# Altium footprint library MyLibrary.PcbLib: 365 footprints (part 12 of 23)
Each footprint in its own frame and in the unit in brackets; x right, y up, seen from the top. Pads: shape width x height; smd on the part's side, far side on the other; paste and mask are expansions set on the pad; w line width, h text height; cw(c..) or ccw(c..) is an arc to the next point about the centre after c.
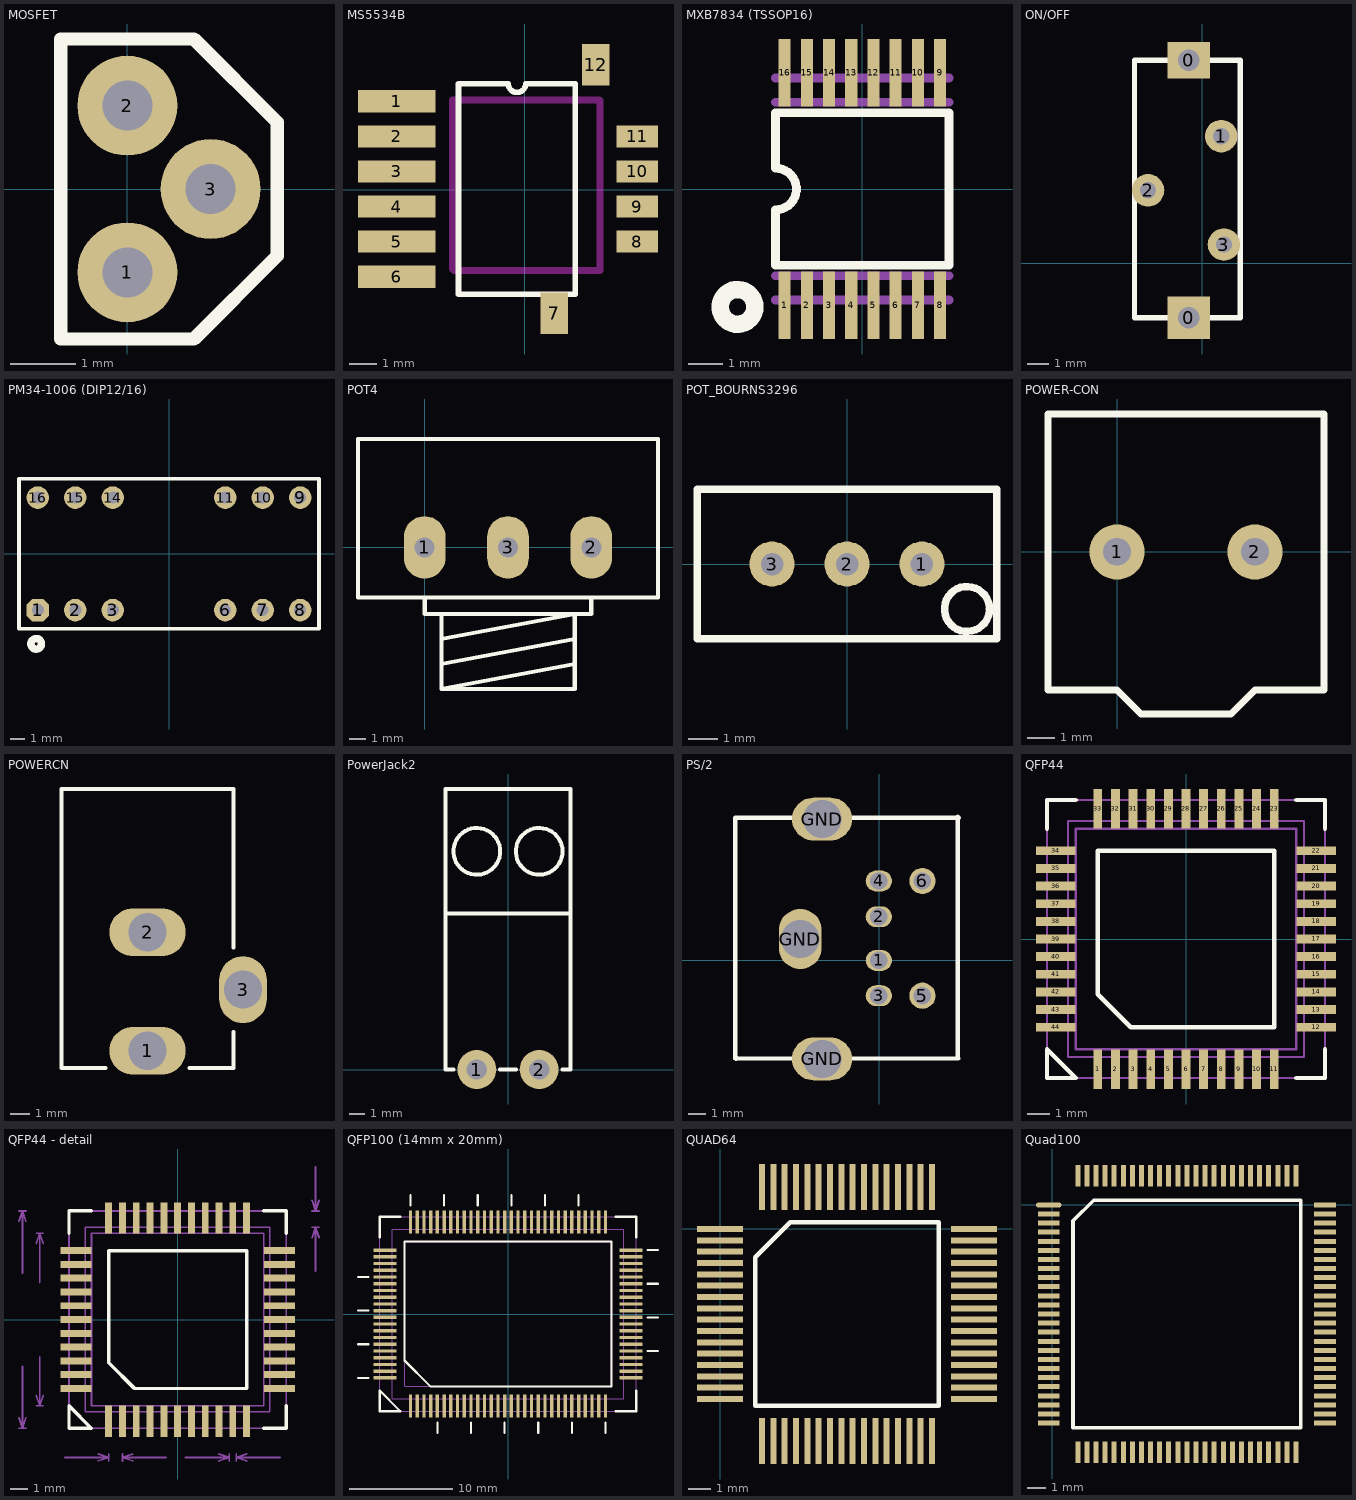
[diagram p11: the footprints below, top view; thin cyan lines are the x and y axes]

## MOSFET [mil]
pads (3):
  round 60 hole 30: 1(0,-50) 2(0,50) 3(50,0)
Top Overlay:
  lines w8: -40,-90 -40,90 40,90 90,40 90,-40 40,-90 -40,-90

## MS5534B [mm]
pads (12):
  rect 2.8x0.8 smd: 1(-4.625,3.2) 2(-4.625,1.93) 3(-4.625,0.66) 4(-4.625,-0.61) 5(-4.625,-1.88) 6(-4.625,-3.15)
  rect 1x1.5 smd: 7(1.075,-4.475) 12(2.575,4.525)
  rect 1.5x0.8 smd: 8(4.075,-1.88) 9(4.075,-0.61) 10(4.075,0.66) 11(4.075,1.93)
Top Layer:
  lines w0.254: -5.325,-1.875 -5.3,-1.9 ; -3.75,3.225 -3.725,3.225
Top Overlay:
  lines w0.2: -2.39,-3.785 1.84,-3.785 1.84,3.835 0.043,3.835 cw(c-0.275,3.835) -0.592,3.835 -2.39,3.835 -2.39,-3.785
Keep-Out Layer:
  lines w0.254: -2.6,3.225 -2.6,-2.875 -2.55,-2.925 2.725,-2.925 2.725,3.225 2.7,3.25 -2.6,3.25

## MXB7834 (TSSOP16) [mm]
pads (16):
  rect 0.35x1.95 smd: 1(-2.24,-3.35) 2(-1.6,-3.35) 3(-0.96,-3.35) 4(-0.32,-3.35) 5(0.32,-3.35) 6(0.96,-3.35) 7(1.6,-3.35) 8(2.24,-3.35) 9(2.24,3.35) 10(1.6,3.35) 11(0.96,3.35) 12(0.32,3.35) 13(-0.32,3.35) 14(-0.96,3.35) 15(-1.6,3.35) 16(-2.24,3.35)
Top Overlay:
  circle w0.5: c-3.6,-3.4 r0.5
  lines w0.254: -2.5,-2.2 -2.5,-0.6 ccw(c-2.5,0) -2.5,0.6 -2.5,2.2 2.5,2.2 2.5,-2.2 -2.5,-2.2
Mechanical 2:
  lines w0.254: -2.5,-3.2 2.5,-3.2 ; -2.5,-2.5 2.5,-2.5 ; -2.5,2.5 2.5,2.5 ; -2.5,3.2 2.5,3.2

## ON/OFF [mil]
pads (5):
  rect 78.74x78.74 hole 39.76: 0(-25,-100)
  rect 78.74x66.93 hole 39.76: 0(-25,375)
  round 60 hole 30: 1(35,235) 2(-100,135) 3(40,35)
Top Overlay:
  lines w10: -125,-100 -125,375 70,375 70,-100 -125,-100

## PM34-1006 (DIP12/16) [mil]
pads (12):
  oct 60x60 hole 32: 1(-350,-150)
  round 60 hole 32: 2(-250,-150) 3(-150,-150) 6(150,-150) 7(250,-150) 8(350,-150) 9(350,150) 10(250,150) 11(150,150) 14(-150,150) 15(-250,150) 16(-350,150)
Top Overlay:
  circle w19.68: c-354.14,-240 r14.14
  lines w10: -400,-200 -400,200 400,200 400,-200 -400,-200

## POT4 [mil]
pads (3):
  oval 100x150 hole 48: 1(0,0) 2(400,0) 3(200,0)
Top Overlay:
  lines w10: 0,-120 0,-160 40,-160 ; 40,-280 360,-220 ; 40,-220 360,-160 ; 360,-280 40,-340 ; 400,-120 400,-160 360,-160 ; 40,-340 360,-340 360,-160 ; 40,-340 40,-160 ; 40,-160 360,-160 ; -160,-120 200,-120 560,-120 560,260 -160,260 -160,-120

## POT_BOURNS3296 [mil]
pads (3):
  round 60 hole 30: 1(100,0) 2(0,0) 3(-100,0)
Top Overlay:
  circle w10: c160,-60 r30
  lines w10: -200,-100 -200,100 200,100 200,-100 -200,-100
Mechanical 1:
  text "<-CW" at -118.11,-78.74 h40

## POWER-CON [mil]
pads (2):
  round 80 hole 40: 1(0,0) 2(200,0)
Top Overlay:
  lines w10: -100,-200 -100,200 300,200 300,-200 200,-200 165,-235 35,-235 0,-200 -100,-200

## POWERCN [mm]
pads (3):
  oval 4x2.5 hole 2: 1(-772.668,-881.745) 2(-772.668,-875.545)
  oval 2.5x3.5 hole 2: 3(-767.668,-878.545)
Top Overlay:
  lines w0.2: -774.868,-882.645 -777.168,-882.645 -777.168,-868.045 -768.168,-868.045 -768.168,-876.345 ; -770.468,-882.645 -768.168,-882.645 -768.168,-880.745

## PowerJack2 [mm]
pads (2):
  round 2.5 hole 1.3: 1(-2,0) 2(2,0)
Top Overlay:
  circle w0.254: c-2,14 r1.5
  circle w0.254: c2,14 r1.5
  lines w0.254: -3.5,0 -4,0 -4,10 ; -0.5,0 0.5,0 ; 3.5,0 4,0 4,10 ; -4,10 -4,18 4,18 4,10 ; -4,10 4,10

## PS/2 [mil]
pads (9):
  oval 60x48 hole 40: 1(-1,0) 2(-1,100) 3(-1,-81) 4(-1,182)
  round 60 hole 40: 5(99,-81) 6(99,182)
  oval 98.42x137.79 hole 88: GND(-181,49)
  oval 137.79x98.42 hole 88: GND(-131,-226) GND(-131,324)
Top Overlay:
  lines w10: -328.37,-226.09 -328.37,-221.09 ; 180,-223 180,329 ; 181,-225 -330,-225 -330,327.28 182.28,327.28

## QFP44 [mm]
pads (44):
  rect 0.4x1.8 smd: 1(-4,-5.9) 2(-3.2,-5.9) 3(-2.4,-5.9) 4(-1.6,-5.9) 5(-0.8,-5.9) 6(0,-5.9) 7(0.8,-5.9) 8(1.6,-5.9) 9(2.4,-5.9) 10(3.2,-5.9) 11(4,-5.9) 23(4,5.9) 24(3.2,5.9) 25(2.4,5.9) 26(1.6,5.9) 27(0.8,5.9) 28(0,5.9) 29(-0.8,5.9) 30(-1.6,5.9) 31(-2.4,5.9) 32(-3.2,5.9) 33(-4,5.9)
  rect 1.8x0.4 smd: 12(5.9,-4) 13(5.9,-3.2) 14(5.9,-2.4) 15(5.9,-1.6) 16(5.9,-0.8) 17(5.9,0) 18(5.9,0.8) 19(5.9,1.6) 20(5.9,2.4) 21(5.9,3.2) 22(5.9,4) 34(-5.9,4) 35(-5.9,3.2) 36(-5.9,2.4) 37(-5.9,1.6) 38(-5.9,0.8) 39(-5.9,0) 40(-5.9,-0.8) 41(-5.9,-1.6) 42(-5.9,-2.4) 43(-5.9,-3.2) 44(-5.9,-4)
Top Overlay:
  lines w0.2: -6.3,5 -6.3,6.3 -5,6.3 ; 5,-6.3 6.3,-6.3 6.3,-5 ; 5,6.3 6.3,6.3 6.3,5 ; -6.3,-6.3 -6.3,-5 -5,-6.3 -6.3,-6.3 ; -4,-2.5 -4,4 4,4 4,-4 -2.5,-4 -4,-2.5
Mechanical 1:
  lines w0.1: -6.3,-6.3 6.3,-6.3 6.3,6.3 -6.3,6.3 -6.3,-6.3 ; -5.35,-5.35 -5.35,5.35 5.35,5.35 5.35,-5.35 -5.35,-5.35 ; -5,-5 5,-5 5,5 -5,5 -5,-5

## QFP44 - detail [mm]
pads (44):
  rect 0.4x1.8 smd: 1(-4,-5.9) 2(-3.2,-5.9) 3(-2.4,-5.9) 4(-1.6,-5.9) 5(-0.8,-5.9) 6(0,-5.9) 7(0.8,-5.9) 8(1.6,-5.9) 9(2.4,-5.9) 10(3.2,-5.9) 11(4,-5.9) 23(4,5.9) 24(3.2,5.9) 25(2.4,5.9) 26(1.6,5.9) 27(0.8,5.9) 28(0,5.9) 29(-0.8,5.9) 30(-1.6,5.9) 31(-2.4,5.9) 32(-3.2,5.9) 33(-4,5.9)
  rect 1.8x0.4 smd: 12(5.9,-4) 13(5.9,-3.2) 14(5.9,-2.4) 15(5.9,-1.6) 16(5.9,-0.8) 17(5.9,0) 18(5.9,0.8) 19(5.9,1.6) 20(5.9,2.4) 21(5.9,3.2) 22(5.9,4) 34(-5.9,4) 35(-5.9,3.2) 36(-5.9,2.4) 37(-5.9,1.6) 38(-5.9,0.8) 39(-5.9,0) 40(-5.9,-0.8) 41(-5.9,-1.6) 42(-5.9,-2.4) 43(-5.9,-3.2) 44(-5.9,-4)
Top Overlay:
  lines w0.2: -6.3,5 -6.3,6.3 -5,6.3 ; 5,-6.3 6.3,-6.3 6.3,-5 ; 5,6.3 6.3,6.3 6.3,5 ; -6.3,-6.3 -5,-6.3 -6.3,-5 -6.3,-6.3 ; -4,-2.5 -2.5,-4 4,-4 4,4 -4,4 -4,-2.5
Mechanical 1:
  lines w0.1: -9.2,-6.3 -8.8,-6.3 ; -9.2,-5.7 -9,-6.3 ; -9.2,5.7 -9,6.3 ; -9.2,6.3 -8.8,6.3 ; -9,-2.703 -9,-6.3 ; -9,2.703 -9,6.3 ; -8.8,-5.7 -9,-6.3 ; -8.8,5.7 -9,6.3 ; -8.2,-5 -7.8,-5 ; -8.2,-4.4 -8,-5 ; -8.2,4.4 -8,5 ; -8.2,5 -7.8,5 ; -8,-2.153 -8,-5 ; -8,2.153 -8,5 ; -7.8,-4.4 -8,-5 ; -7.8,4.4 -8,5 ; -6.54,-8 -4,-8 ; -4.6,-8.2 -4,-8 ; -4.6,-7.8 -4,-8 ; -4,-8.2 -4,-7.8 ; -3.2,-8.2 -3.2,-7.8 ; -2.6,-8.2 -3.2,-8 ; -2.6,-7.8 -3.2,-8 ; -0.66,-8 -3.2,-8 ; 0.46,-8 3,-8 ; 2.4,-8.2 3,-8 ; 2.4,-7.8 3,-8 ; 3,-8.2 3,-7.8 ; 3.4,-8.2 3.4,-7.8 ; 4,-8.2 3.4,-8 ; 4,-7.8 3.4,-8 ; 5.94,-8 3.4,-8 ; 7.8,4.75 8,5.35 ; 7.8,5.35 8.2,5.35 ; 7.8,6.3 8.2,6.3 ; 7.8,6.9 8,6.3 ; 8,2.81 8,5.35 ; 8,8.84 8,6.3 ; 8.2,4.75 8,5.35 ; 8.2,6.9 8,6.3 ; -6.3,-6.3 -6.3,6.3 6.3,6.3 6.3,-6.3 -6.3,-6.3 ; -5.35,-5.35 5.35,-5.35 5.35,5.35 -5.35,5.35 -5.35,-5.35 ; -5,-5 -5,5 5,5 5,-5 -5,-5
  text "10 (mm)" at -7.6,-1.899 h0.6
  text "12.6 (mm)" at -8.6,-2.449 h0.6
  text "0.8 (mm)" at -5.799,-9.6 h0.6
  text "0.95 (mm)" at 9.6,3.326 h0.6
  text "0.4 (mm)" at 1.001,-9.6 h0.6

## QFP100 (14mm x 20mm) [mm]
pads (100):
  rect 0.32x2.2 smd: 1(-9.425,-8.9) 2(-8.775,-8.9) 3(-8.125,-8.9) 4(-7.475,-8.9) 5(-6.825,-8.9) 6(-6.175,-8.9) 7(-5.525,-8.9) 8(-4.875,-8.9) 9(-4.225,-8.9) 10(-3.575,-8.9) 11(-2.925,-8.9) 12(-2.275,-8.9) 13(-1.625,-8.9) 14(-0.975,-8.9) 15(-0.325,-8.9) 16(0.325,-8.9) 17(0.975,-8.9) 18(1.625,-8.9) 19(2.275,-8.9) 20(2.925,-8.9) 21(3.575,-8.9) 22(4.225,-8.9) 23(4.875,-8.9) 24(5.525,-8.9) 25(6.175,-8.9) 26(6.825,-8.9) 27(7.475,-8.9) 28(8.125,-8.9) 29(8.775,-8.9) 30(9.425,-8.9) 51(9.425,8.9) 52(8.775,8.9) 53(8.125,8.9) 54(7.475,8.9) 55(6.825,8.9) 56(6.175,8.9) 57(5.525,8.9) 58(4.875,8.9) 59(4.225,8.9) 60(3.575,8.9) 61(2.925,8.9) 62(2.275,8.9) 63(1.625,8.9) 64(0.975,8.9) 65(0.325,8.9) 66(-0.325,8.9) 67(-0.975,8.9) 68(-1.625,8.9) 69(-2.275,8.9) 70(-2.925,8.9) 71(-3.575,8.9) 72(-4.225,8.9) 73(-4.875,8.9) 74(-5.525,8.9) 75(-6.175,8.9) 76(-6.825,8.9) 77(-7.475,8.9) 78(-8.125,8.9) 79(-8.775,8.9) 80(-9.425,8.9)
  rect 2.2x0.32 smd: 31(11.9,-6.175) 32(11.9,-5.525) 33(11.9,-4.875) 34(11.9,-4.225) 35(11.9,-3.575) 36(11.9,-2.925) 37(11.9,-2.275) 38(11.9,-1.625) 39(11.9,-0.975) 40(11.9,-0.325) 41(11.9,0.325) 42(11.9,0.975) 43(11.9,1.625) 44(11.9,2.275) 45(11.9,2.925) 46(11.9,3.575) 47(11.9,4.225) 48(11.9,4.875) 49(11.9,5.525) 50(11.9,6.175) 81(-11.9,6.175) 82(-11.9,5.525) 83(-11.9,4.875) 84(-11.9,4.225) 85(-11.9,3.575) 86(-11.9,2.925) 87(-11.9,2.275) 88(-11.9,1.625) 89(-11.9,0.975) 90(-11.9,0.325) 91(-11.9,-0.325) 92(-11.9,-0.975) 93(-11.9,-1.625) 94(-11.9,-2.275) 95(-11.9,-2.925) 96(-11.9,-3.575) 97(-11.9,-4.225) 98(-11.9,-4.875) 99(-11.9,-5.525) 100(-11.9,-6.175)
Top Overlay:
  lines w0.2: -14.5,-6.175 -13.5,-6.175 ; -14.5,-2.925 -13.5,-2.925 ; -14.5,0.325 -13.5,0.325 ; -14.5,3.575 -13.5,3.575 ; -12.4,7.4 -12.4,9.4 -10.4,9.4 ; -9.425,10.5 -9.425,11.5 ; -6.825,-11.5 -6.825,-10.5 ; -6.175,10.5 -6.175,11.5 ; -3.575,-11.5 -3.575,-10.5 ; -2.925,10.5 -2.925,11.5 ; -0.325,-11.5 -0.325,-10.5 ; 0.325,10.5 0.325,11.5 ; 2.925,-11.5 2.925,-10.5 ; 3.575,10.5 3.575,11.5 ; 6.175,-11.5 6.175,-10.5 ; 6.825,10.5 6.825,11.5 ; 9.425,-11.5 9.425,-10.5 ; 10.4,-9.4 12.4,-9.4 12.4,-7.4 ; 10.4,9.4 12.4,9.4 12.4,7.4 ; 13.5,-3.575 14.5,-3.575 ; 13.5,-0.325 14.5,-0.325 ; 13.5,2.925 14.5,2.925 ; 13.5,6.175 14.5,6.175 ; -10.4,-9.4 -12.4,-7.4 -12.4,-9.4 -10.4,-9.4 ; -10.4,-9.4 -10.4,-9.4 ; -10,-4.5 -7.5,-7 -7,-7 10,-7 10,7 -10,7 -10,-4.5
Mechanical 1:
  lines w0.1: -12.4,-9.4 12.4,-9.4 12.4,9.4 -12.4,9.4 -12.4,-9.4 ; -11.2,-8.2 -11.2,8.2 11.2,8.2 11.2,-8.2 -11.2,-8.2 ; -10,-7 10,-7 10,7 -10,7 -10,-7

## QUAD64 [mm]
pads (64):
  rect 2.032x0.27 smd: 1(0,0) 2(0,-0.5) 3(0,-1) 4(0,-1.5) 5(0,-2) 6(0,-2.5) 7(0,-3) 8(0,-3.5) 9(0,-4) 10(0,-4.5) 11(0,-5) 12(0,-5.5) 13(0,-6) 14(0,-6.5) 15(0,-7) 16(0,-7.5) 33(11.2,-7.5) 34(11.2,-7) 35(11.2,-6.5) 36(11.2,-6) 37(11.2,-5.5) 38(11.2,-5) 39(11.2,-4.5) 40(11.2,-4) 41(11.2,-3.5) 42(11.2,-3) 43(11.2,-2.5) 44(11.2,-2) 45(11.2,-1.5) 46(11.2,-1) 47(11.2,-0.5) 48(11.2,0)
  rect 0.27x2.032 smd: 17(1.85,-9.35) 18(2.35,-9.35) 19(2.85,-9.35) 20(3.35,-9.35) 21(3.85,-9.35) 22(4.35,-9.35) 23(4.85,-9.35) 24(5.35,-9.35) 25(5.85,-9.35) 26(6.35,-9.35) 27(6.85,-9.35) 28(7.35,-9.35) 29(7.85,-9.35) 30(8.35,-9.35) 31(8.85,-9.35) 32(9.35,-9.35) 49(9.35,1.85) 50(8.85,1.85) 51(8.35,1.85) 52(7.85,1.85) 53(7.35,1.85) 54(6.85,1.85) 55(6.35,1.85) 56(5.85,1.85) 57(5.35,1.85) 58(4.85,1.85) 59(4.35,1.85) 60(3.85,1.85) 61(3.35,1.85) 62(2.85,1.85) 63(2.35,1.85) 64(1.85,1.85)
Top Overlay:
  lines w0.2: 1.551,-7.799 1.551,-1.252 3.102,0.299 9.649,0.299 9.649,-7.799 1.551,-7.799

## Quad100 [mm]
pads (100):
  oval 1.4x0.275 smd: 1(-0.202,-0.01)
  rect 1.2x0.275 smd: 2(-0.202,-0.51) 3(-0.202,-1.01) 4(-0.202,-1.51) 5(-0.202,-2.01) 6(-0.202,-2.51) 7(-0.202,-3.01) 8(-0.202,-3.51) 9(-0.202,-4.01) 10(-0.202,-4.51) 11(-0.202,-5.01) 12(-0.202,-5.51) 13(-0.202,-6.01) 14(-0.202,-6.51) 15(-0.202,-7.01) 16(-0.202,-7.51) 17(-0.202,-8.01) 18(-0.202,-8.51) 19(-0.202,-9.01) 20(-0.202,-9.51) 21(-0.202,-10.01) 22(-0.202,-10.51) 23(-0.202,-11.01) 24(-0.202,-11.51) 25(-0.202,-12.01) 51(15.004,-12.01) 52(15.004,-11.51) 53(15.004,-11.01) 54(15.004,-10.51) 55(15.004,-10.01) 56(15.004,-9.51) 57(15.004,-9.01) 58(15.004,-8.51) 59(15.004,-8.01) 60(15.004,-7.51) 61(15.004,-7.01) 62(15.004,-6.51) 63(15.004,-6.01) 64(15.004,-5.51) 65(15.004,-5.01) 66(15.004,-4.51) 67(15.004,-4.01) 68(15.004,-3.51) 69(15.004,-3.01) 70(15.004,-2.51) 71(15.004,-2.01) 72(15.004,-1.51) 73(15.004,-1.01) 74(15.004,-0.51) 75(15.004,-0.01)
  rect 0.275x1.2 smd: 26(1.401,-13.613) 27(1.901,-13.613) 28(2.401,-13.613) 29(2.901,-13.613) 30(3.401,-13.613) 31(3.901,-13.613) 32(4.401,-13.613) 33(4.901,-13.613) 34(5.401,-13.613) 35(5.901,-13.613) 36(6.401,-13.613) 37(6.901,-13.613) 38(7.401,-13.613) 39(7.901,-13.613) 40(8.401,-13.613) 41(8.901,-13.613) 42(9.401,-13.613) 43(9.901,-13.613) 44(10.401,-13.613) 45(10.901,-13.613) 46(11.401,-13.613) 47(11.901,-13.613) 48(12.401,-13.613) 49(12.901,-13.613) 50(13.401,-13.613) 76(13.401,1.593) 77(12.901,1.593) 78(12.401,1.593) 79(11.901,1.593) 80(11.401,1.593) 81(10.901,1.593) 82(10.401,1.593) 83(9.901,1.593) 84(9.401,1.593) 85(8.901,1.593) 86(8.401,1.593) 87(7.901,1.593) 88(7.401,1.593) 89(6.901,1.593) 90(6.401,1.593) 91(5.901,1.593) 92(5.401,1.593) 93(4.901,1.593) 94(4.401,1.593) 95(3.901,1.593) 96(3.401,1.593) 97(2.901,1.593) 98(2.401,1.593) 99(1.901,1.593) 100(1.401,1.593)
Top Overlay:
  lines w0.2: 1.136,-12.275 1.136,-0.88 2.271,0.255 13.666,0.255 13.666,-12.275 1.136,-12.275